# EAGLE library part ARDUINOR3 (library TiLDA Mk2 Parts)
This is a new object for the new Arduino R3 - with extra pins that you may want to use (such as IOref, and duplicated A4/A5
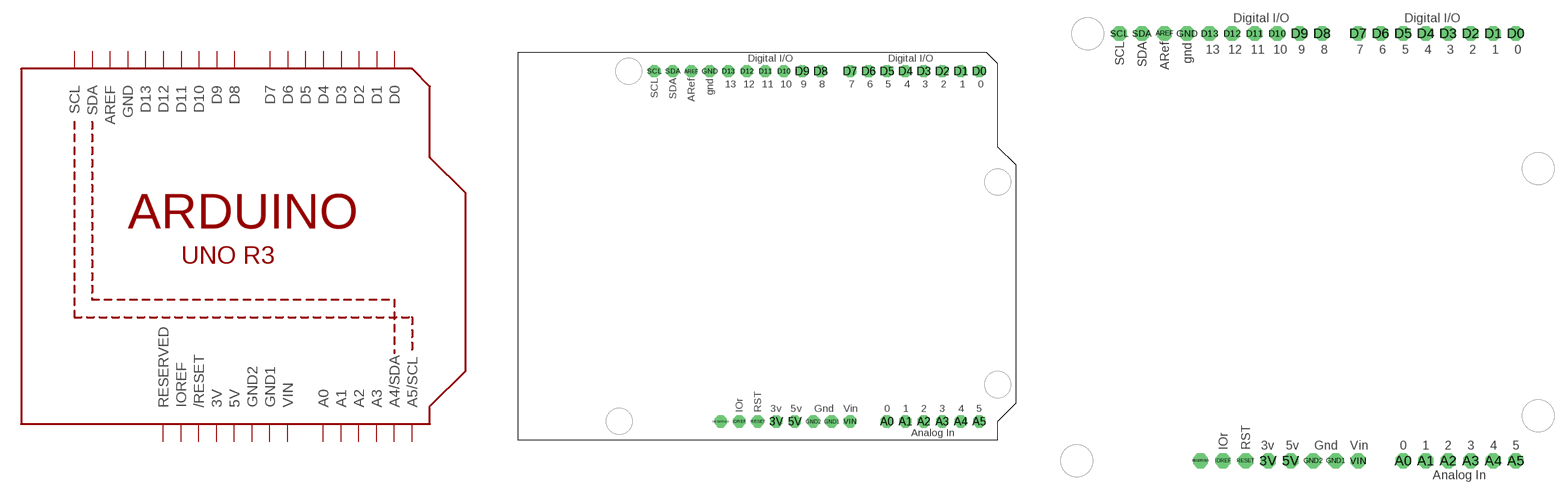
[diagram p6: symbol with the pads of ARDUINOR3; footprints ARDUINOR3, ARDUINOR3-BPLACE]

Designator prefix U

## ARDUINOR3-DIMENSION  [ARDUINOR3]
3V  3V  pwr
5V  5V  pwr
A0  A0
A1  A1
A2  A2
A3  A3
A4  A4/SDA
A5  A5/SCL
AREF  AREF
D0  D0
D1  D1
D2  D2
D3  D3
D4  D4
D5  D5
D6  D6
D7  D7
D8  D8
D9  D9
D10  D10
D11  D11
D12  D12
D13  D13
GND  GND  pwr
GND1  GND1  pwr
GND2  GND2  pwr
IOREF  IOREF  out
RESERVED  RESERVED  nc
RESET  /RESET
SCL  SCL
SDA  SDA
VIN  VIN  pwr

## ARDUINOR3-BPLACE  [ARDUINOR3-BPLACE]
Pads as for ARDUINOR3

## ARDUINOR3-CISECO  [ARDUINOR3-LWKTXT]
Pads as for ARDUINOR3

## ARDUINOR3-CISECO-NO_DIMENSION  [ARDUINORS-LWKTXT-REF]
Pads as for ARDUINOR3

## ARDUINOR3-DOUBLE  [ARDUINOR3-DOUBLE]
3V  3V  pwr
3V1  3V  pwr
5V  5V  pwr
5V1  5V  pwr
A0  A0
A1  A1
A2  A2
A3  A3
A4  A4/SDA
A5  A5/SCL
A6  A0
A7  A1
A8  A2
A9  A3
A10  A4/SDA
A11  A5/SCL
AREF  AREF
AREF1  AREF
D0  D0
D1  D1
D2  D2
D3  D3
D4  D4
D5  D5
D6  D6
D7  D7
D8  D8
D9  D9
D10  D10
D11  D11
D12  D12
D13  D13
D14  D4
D15  D3
D16  D2
D17  D1
D18  D0
D19  D5
D20  D6
D21  D7
D22  D8
D23  D9
D24  D10
D25  D11
D26  D12
D27  D13
GND  GND  pwr
GND1  GND1  pwr
GND2  GND2  pwr
GND3  GND1  pwr
GND4  GND2  pwr
GND5  GND  pwr
IOREF  IOREF  out
IOREF1  IOREF  out
RESERVED  RESERVED  nc
RESERVED1  RESERVED  nc
RESET  /RESET
RESET1  /RESET
SCL  SCL
SCL1  SCL
SDA  SDA
SDA1  SDA
VIN  VIN  pwr
VIN1  VIN  pwr

## ARDUINOR3-CISECO-NO_DIMENSION-SPI  [ARDUINOR3-LWKTXT-REF-SPI]
Pads as for ARDUINOR3

## Footprint ARDUINOR3 (pad centres in mm)
The new Arduino R3 'classic' adds duplicate I2C pins and an IORef pin (and an unused pin
drill 1 pad 1.676 octagon: 3V 35.56,2.54; 5V 38.1,2.54; A0 50.8,2.54; A1 53.34,2.54; A2 55.88,2.54; A3 58.42,2.54; A4 60.96,2.54; A5 63.5,2.54; AREF 23.876,50.8; D0 63.5,50.8; D1 60.96,50.8; D2 58.42,50.8; D3 55.88,50.8; D4 53.34,50.8; D5 50.8,50.8; D6 48.26,50.8; D7 45.72,50.8; D8 41.656,50.8; D9 39.116,50.8; D10 36.576,50.8; D11 34.036,50.8; D12 31.496,50.8; D13 28.956,50.8; GND 26.416,50.8; GND1 43.18,2.54; GND2 40.64,2.54; IOREF 30.48,2.54; RESERVED 27.94,2.54; RESET 33.02,2.54; SCL 18.796,50.8; SDA 21.336,50.8; VIN 45.72,2.54

## Footprint ARDUINOR3-BPLACE (pad centres in mm)
drill 1 pad 1.676 octagon: 3V 35.56,2.54; 5V 38.1,2.54; A0 50.8,2.54; A1 53.34,2.54; A2 55.88,2.54; A3 58.42,2.54; A4 60.96,2.54; A5 63.5,2.54; AREF 23.876,50.8; D0 63.5,50.8; D1 60.96,50.8; D2 58.42,50.8; D3 55.88,50.8; D4 53.34,50.8; D5 50.8,50.8; D6 48.26,50.8; D7 45.72,50.8; D8 41.656,50.8; D9 39.116,50.8; D10 36.576,50.8; D11 34.036,50.8; D12 31.496,50.8; D13 28.956,50.8; GND 26.416,50.8; GND1 43.18,2.54; GND2 40.64,2.54; IOREF 30.48,2.54; RESERVED 27.94,2.54; RESET 33.02,2.54; SCL 18.796,50.8; SDA 21.336,50.8; VIN 45.72,2.54

## Footprint ARDUINOR3-LWKTXT (pad centres in mm)
drill 1 pad 1.676 octagon: 3V 35.56,2.54; 5V 38.1,2.54; A0 50.8,2.54; A1 53.34,2.54; A2 55.88,2.54; A3 58.42,2.54; A4 60.96,2.54; A5 63.5,2.54; AREF 23.876,50.8; D0 63.5,50.8; D1 60.96,50.8; D2 58.42,50.8; D3 55.88,50.8; D4 53.34,50.8; D5 50.8,50.8; D6 48.26,50.8; D7 45.72,50.8; D8 41.656,50.8; D9 39.116,50.8; D10 36.576,50.8; D11 34.036,50.8; D12 31.496,50.8; D13 28.956,50.8; GND 26.416,50.8; GND1 43.18,2.54; GND2 40.64,2.54; IOREF 30.48,2.54; RESERVED 27.94,2.54; RESET 33.02,2.54; SCL 18.796,50.8; SDA 21.336,50.8; VIN 45.72,2.54

## Footprint ARDUINORS-LWKTXT-REF (pad centres in mm)
drill 1.016 pad 1.88 octagon: 1 66.167,25.4; 2 63.627,25.4; 3 66.167,27.94; 4 63.627,27.94; 5 66.167,30.48; 6 63.627,30.48
drill 1 pad 1.676 octagon: 3V 35.56,2.54; 5V 38.1,2.54; A0 50.8,2.54; A1 53.34,2.54; A2 55.88,2.54; A3 58.42,2.54; A4 60.96,2.54; A5 63.5,2.54; AREF 23.876,50.8; D0 63.5,50.8; D1 60.96,50.8; D2 58.42,50.8; D3 55.88,50.8; D4 53.34,50.8; D5 50.8,50.8; D6 48.26,50.8; D7 45.72,50.8; D8 41.656,50.8; D9 39.116,50.8; D10 36.576,50.8; D11 34.036,50.8; D12 31.496,50.8; D13 28.956,50.8; GND 26.416,50.8; GND1 43.18,2.54; GND2 40.64,2.54; IOREF 30.48,2.54; RESERVED 27.94,2.54; RESET 33.02,2.54; SCL 18.796,50.8; SDA 21.336,50.8; VIN 45.72,2.54

## Footprint ARDUINOR3-DOUBLE (pad centres in mm)
drill 1 pad 1.676 octagon: 3V 35.56,2.54; 3V1 35.56,5.08; 5V 38.1,2.54; 5V1 38.1,5.08; A0 50.8,2.54; A1 53.34,2.54; A2 55.88,2.54; A3 58.42,2.54; A4 60.96,2.54; A5 63.5,2.54; A6 50.8,5.08; A7 53.34,5.08; A8 55.88,5.08; A9 58.42,5.08; A10 60.96,5.08; A11 63.5,5.08; AREF 23.876,50.8; AREF1 23.876,48.26; D0 63.5,50.8; D1 60.96,50.8; D2 58.42,50.8; D3 55.88,50.8; D4 53.34,50.8; D5 50.8,50.8; D6 48.26,50.8; D7 45.72,50.8; D8 41.656,50.8; D9 39.116,50.8; D10 36.576,50.8; D11 34.036,50.8; D12 31.496,50.8; D13 28.956,50.8; D14 53.34,48.26; D15 55.88,48.26; D16 58.42,48.26; D17 60.96,48.26; D18 63.5,48.26; D19 50.8,48.26; D20 48.26,48.26; D21 45.72,48.26; D22 41.656,48.26; D23 39.116,48.26; D24 36.576,48.26; D25 34.036,48.26; D26 31.496,48.26; D27 28.956,48.26; GND 26.416,50.8; GND1 43.18,2.54; GND2 40.64,2.54; GND3 43.18,5.08; GND4 40.64,5.08; GND5 26.416,48.26; IOREF 30.48,2.54; IOREF1 30.48,5.08; RESERVED 27.94,2.54; RESERVED1 27.94,5.08; RESET 33.02,2.54; RESET1 33.02,5.08; SCL 18.796,50.8; SCL1 18.796,48.26; SDA 21.336,50.8; SDA1 21.336,48.26; VIN 45.72,2.54; VIN1 45.72,5.08

## Footprint ARDUINOR3-LWKTXT-REF-SPI (pad centres in mm)
drill 1.016 pad 1.88 octagon: 1 66.167,25.4; 2 63.627,25.4; 3 66.167,27.94; 4 63.627,27.94; 5 66.167,30.48; 6 63.627,30.48
drill 1 pad 1.676 octagon: 3V 35.56,2.54; 5V 38.1,2.54; A0 50.8,2.54; A1 53.34,2.54; A2 55.88,2.54; A3 58.42,2.54; A4 60.96,2.54; A5 63.5,2.54; AREF 23.876,50.8; D0 63.5,50.8; D1 60.96,50.8; D2 58.42,50.8; D3 55.88,50.8; D4 53.34,50.8; D5 50.8,50.8; D6 48.26,50.8; D7 45.72,50.8; D8 41.656,50.8; D9 39.116,50.8; D10 36.576,50.8; D11 34.036,50.8; D12 31.496,50.8; D13 28.956,50.8; GND 26.416,50.8; GND1 43.18,2.54; GND2 40.64,2.54; IOREF 30.48,2.54; RESERVED 27.94,2.54; RESET 33.02,2.54; SCL 18.796,50.8; SDA 21.336,50.8; VIN 45.72,2.54